# Altium footprint library Rich Footprints.PcbLib: 155 footprints (part 1 of 10)
Each footprint in its own frame and in the unit in brackets; x right, y up, seen from the top. Pads: shape width x height; smd on the part's side, far side on the other; paste and mask are expansions set on the pad; w line width, h text height; cw(c..) or ccw(c..) is an arc to the next point about the centre after c.
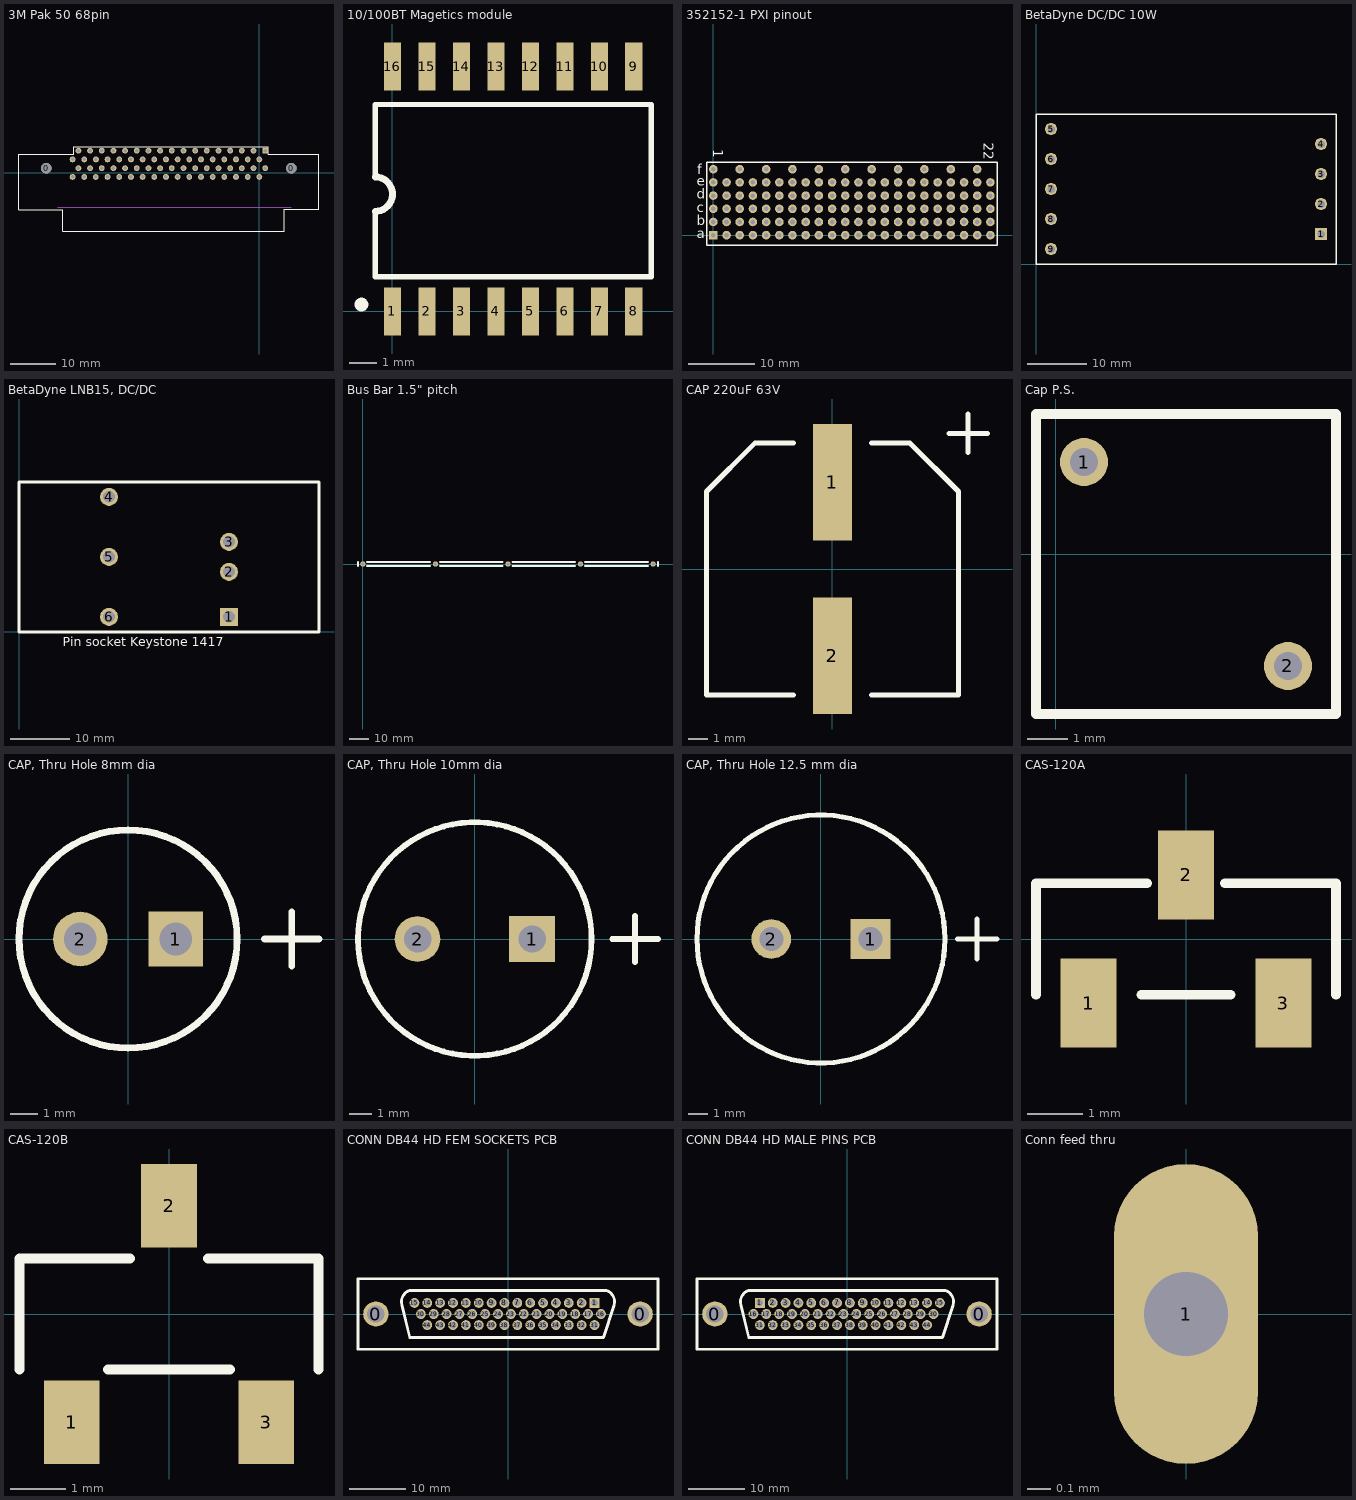
[diagram p0: the footprints below, top view; thin cyan lines are the x and y axes]

## 3M Pak 50 68pin [mil] "68 pin RT angle thru hole"
height 275.59
pads (70):
  round 90 hole 90 unplated: 0(-1825,37) 0(275,37)
  round 50 hole 30 mask+4: 0(-1150,187.5) 2(50,37.5) 3(0,112.5) 5(-50,187.5) 6(-50,37.5) 7(-100,112.5) 9(-150,187.5) 10(-150,37.5) 11(-200,112.5) 13(-250,187.5) 14(-250,37.5) 15(-300,112.5) 17(-350,187.5) 18(-350,37.5) 19(-400,112.5) 21(-450,187.5) 22(-450,37.5) 23(-500,112.5) 25(-550,187.5) 26(-550,37.5) 27(-600,112.5) 29(-650,187.5) 30(-650,37.5) 31(-700,112.5) 33(-750,187.5) 34(-750,37.5) 35(-800,112.5) 37(-850,187.5) 38(-850,37.5) 39(-900,112.5) 41(-950,187.5) 42(-950,37.5) 43(-1000,112.5) 45(-1050,187.5) 46(-1050,37.5) 47(-1100,112.5) 50(-1150,37.5) 51(-1200,112.5) 53(-1250,187.5) 54(-1250,37.5) 55(-1300,112.5) 57(-1350,187.5) 58(-1350,37.5) 59(-1400,112.5) 61(-1450,187.5) 62(-1450,37.5) 63(-1500,112.5) 65(-1550,187.5) 66(-1550,37.5) 67(-1600,112.5)
  rect 50x50 hole 30 mask+4: 1(50,187.5)
  round 50 hole 30: 4(0,-37.5) 8(-100,-37.5) 12(-200,-37.5) 16(-300,-37.5) 20(-400,-37.5) 24(-500,-37.5) 28(-600,-37.5) 32(-700,-37.5) 36(-800,-37.5) 40(-900,-37.5) 44(-1000,-37.5) 48(-1100,-37.5) 52(-1200,-37.5) 56(-1300,-37.5) 60(-1401,-38) 64(-1500,-37.5) 68(-1600,-37.5)
Top Overlay:
  lines w10: -2059,-318 -2059,-195 -2059,37 -2059,158 -1698,158 -1591,158 -1588,161 -1588,222 78,222 78,155 81,158 511,158 511,37 511,-315 215,-315 215,-504 -1686,-504 -1686,-318 -2059,-318
Mechanical 13:
  lines w10: -1725,-299 275,-299
  text "PCB Edge" at -953,-379 h50

## 10/100BT Magetics module [mil] "bel p/n S558-6-5999-J1-F"
pads (16):
  rect 25x70 smd: 1(0,0) 2(50,0) 3(100,0) 4(150,0) 5(200,0) 6(250,0) 7(300,0) 8(350,0) 9(350,355) 10(300,355) 11(250,355) 12(200,355) 13(150,355) 14(100,355) 15(50,355) 16(0,355)
Top Overlay:
  circle w10: c-45,10 r5
  lines w7.87: -25,145 -25,50 375,50 375,300 -25,300 -25,195
  lines w10: -25,145 ccw(c-25,170) -25,195

## 352152-1 PXI pinout [mm] "Connector; CompactPCI; 110 Position; Right Angle"
height 8.13
pads (121):
  rect 1.3x1.3 hole 0.7: A1(0,0)
  round 1.3 hole 0.7: A2(2,0) A3(4,0) A4(6,0) A5(8,0) A6(10,0) A7(12,0) A8(14,0) A9(16,0) A10(18,0) A11(20,0) A12(22,0) A13(24,0) A14(26,0) A15(28,0) A16(30,0) A17(32,0) A18(34,0) A19(36,0) A20(38,0) A21(40,0) A22(42,0) B1(0,2) B2(2,2) B3(4,2) B4(6,2) B5(8,2) B6(10,2) B7(12,2) B8(14,2) B9(16,2) B10(18,2) B11(20,2) B12(22,2) B13(24,2) B14(26,2) B15(28,2) B16(30,2) B17(32,2) B18(34,2) B19(36,2) B20(38,2) B21(40,2) B22(42,2) C1(0,4) C2(2,4) C3(4,4) C4(6,4) C5(8,4) C6(10,4) C7(12,4) C8(14,4) C9(16,4) C10(18,4) C11(20,4) C12(22,4) C13(24,4) C14(26,4) C15(28,4) C16(30,4) C17(32,4) C18(34,4) C19(36,4) C20(38,4) C21(40,4) C22(42,4) D1(0,6) D2(2,6) D3(4,6) D4(6,6) D5(8,6) D6(10,6) D7(12,6) D8(14,6) D9(16,6) D10(18,6) D11(20,6) D12(22,6) D13(24,6) D14(26,6) D15(28,6) D16(30,6) D17(32,6) D18(34,6) D19(36,6) D20(38,6) D21(40,6) D22(42,6) E1(0,8) E2(2,8) E3(4,8) E4(6,8) E5(8,8) E6(10,8) E7(12,8) E8(14,8) E9(16,8) E10(18,8) E11(20,8) E12(22,8) E13(24,8) E14(26,8) E15(28,8) E16(30,8) E17(32,8) E18(34,8) E19(36,8) E20(38,8) E21(40,8) E22(42,8) F1(0,10) F3(4,10) F5(8,10) F7(12,10) F9(16,10) F11(20,10) F13(24,10) F15(28,10) F17(32,10) F19(36,10) F21(40,10)
Top Overlay:
  lines w0.2: -1,-1.5 43,-1.5 43,11.05 -1,11.05 -1,-1.5
  text "1" at 0,13 h1.5
  text "22" at 41,14 h1.5
  text "e" at -2.475,7.5 h1.5
  text "d" at -2.475,5.5 h1.5
  text "c" at -2.475,3.5 h1.5
  text "b" at -2.475,1.5 h1.5
  text "a" at -2.475,-0.5 h1.5
  text "f" at -2.475,9.225 h1.5

## BetaDyne DC/DC 10W [mil]
height 393.7
pads (9):
  rect 80x80 hole 50: 1(1900,200)
  round 80 hole 50: 2(1900,400) 3(1900,600) 4(1900,800) 5(100,900) 6(100,700) 7(100,500) 8(100,300) 9(100,100)
Top Overlay:
  lines w10: 0,0 2000,0 2000,1000 0,1000 0,0

## BetaDyne LNB15, DC/DC [mil] "15W Low Noise"
height 450
pads (6):
  rect 120x120 hole 78: 1(1400,100)
  round 120 hole 78: 2(1400,400) 3(1400,600) 4(600,900) 5(600,500) 6(600,100)
Top Overlay:
  lines w20: 0,0 2000,0 2000,1000 0,1000 0,0
  text "Pin socket Keystone 1417" at 290,-95 h60

## Bus Bar 1.5" pitch [mil] "Rigid/Bus Bar"
pads (5):
  round 110 hole 70: 1(0,0) 1(1500,0) 1(3000,0) 1(4500,0) 1(6000,0)
Top Overlay:
  lines w39.37: -100,-40 -100,40 ; 90,-40 1390,-40 ; 90,40 1390,40 ; 1590,-40 2890,-40 ; 1590,40 2890,40 ; 3090,-40 4390,-40 ; 3090,40 4390,40 ; 4590,-40 5890,-40 ; 4590,40 5890,40 ; 6100,-40 6100,40

## CAP 220uF 63V [mm] "United Chemi-Con size KG5"
pads (2):
  rect 2x6 smd: 1(0,4.475) 2(0,-4.475)
Top Overlay:
  lines w0.254: -2,-6.5 -6.5,-6.5 -6.5,4 -4,6.5 -2,6.5 ; 2,-6.5 6.5,-6.5 6.5,0 6.5,4 4,6.5 2,6.5 ; 6,7 8,7 ; 7,6 7,8

## Cap P.S. [mm]
pads (2):
  round 1.2 hole 0.7: 1(0.7,2.3) 2(5.8,-2.8)
Top Overlay:
  lines w0.254: -0.5,-4 -0.5,3.5 7,3.5 7,-4 -0.5,-4

## CAP, Thru Hole 8mm dia [mm]
pads (2):
  rect 2x2 hole 1.2: 1(1.75,0)
  round 2 hole 1.2: 2(-1.75,0)
Top Overlay:
  circle w0.254: c0,0 r4
  lines w0.254: 5,0 7,0 ; 6,-1 6,1

## CAP, Thru Hole 10mm dia [mm]
pads (2):
  rect 2x2 hole 1.2: 1(2.5,0)
  round 2 hole 1.2: 2(-2.5,0)
Top Overlay:
  circle w0.254: c0,0 r5.099
  lines w0.254: 6,0 7,0 ; 7,-1 7,0 ; 7,1 7,0 ; 8,0 7,0

## CAP, Thru Hole 12.5 mm dia [mm]
pads (2):
  rect 2x2 hole 1.2: 1(2.5,0)
  round 2 hole 1.2: 2(-2.5,0)
Top Overlay:
  circle w0.254: c0,0 r6.25
  lines w0.254: 6.874,0 7.874,0 ; 7.874,-1 7.874,0 ; 7.874,1 7.874,0 ; 8.874,0 7.874,0

## CAS-120A [mm] "Copal Electronics CAS SMD Slide Switch J-Hook"
height 2.54
pads (3):
  rect 1x1.6 smd: 1(-1.75,-1.15) 2(0,1.15) 3(1.75,-1.15)
Top Overlay:
  lines w0.178: -2.692,-1 -2.692,1 -0.7,1 ; -0.8,-1 0.8,-1 ; 0.7,1 2.692,1 2.692,-1

## CAS-120B [mm] "Copal Electronics CAS SMD Slide Switch"
height 2.54
pads (3):
  rect 1x1.5 smd: 1(-1.75,-1.95) 2(0,1.95) 3(1.75,-1.95)
Top Overlay:
  lines w0.178: -2.692,-1 -2.692,1 -0.7,1 ; -1.1,-1 1.1,-1 ; 0.7,1 2.692,1 2.692,-1

## CONN DB44 HD FEM SOCKETS PCB [mm] "PCB VERTICAL MOUNT"
pads (46):
  round 4.5 hole 3.1: 0(-23.525,0) 0(23.525,0)
  rect 1.75x1.75 hole 1.2: 1(15.4,1.98)
  round 1.75 hole 1.2: 2(13.11,1.98) 3(10.82,1.98) 4(8.53,1.98) 5(6.24,1.98) 6(3.95,1.98) 7(1.66,1.98) 8(-0.63,1.98) 9(-2.92,1.98) 10(-5.21,1.98) 11(-7.5,1.98) 12(-9.79,1.98) 13(-12.08,1.98) 14(-14.37,1.98) 15(-16.66,1.98) 16(16.545,0) 17(14.255,0) 18(11.965,0) 19(9.675,0) 20(7.385,0) 21(5.095,0) 22(2.805,0) 23(0.515,0) 24(-1.775,0) 25(-4.065,0) 26(-6.355,0) 27(-8.645,0) 28(-10.935,0) 29(-13.225,0) 30(-15.515,0) 31(15.4,-1.98) 32(13.11,-1.98) 33(10.82,-1.98) 34(8.53,-1.98) 35(6.24,-1.98) 36(3.95,-1.98) 37(1.66,-1.98) 38(-0.63,-1.98) 39(-2.92,-1.98) 40(-5.21,-1.98) 41(-7.5,-1.98) 42(-9.79,-1.98) 43(-12.08,-1.98) 44(-14.37,-1.98)
Top Overlay:
  lines w0.508: -17.5,4.18 ccw(c-16.839,2.161) -18.859,1.5 -17.5,-4.18 0,-4.18 17,-4.18 18.859,1.5 ccw(c16.839,2.161) 17.5,4.18 ; -17.399,4.18 17.424,4.18 ; -26.7,-6.275 0,-6.275 26.7,-6.275 26.7,6.275 -26.7,6.275 -26.7,-6.275

## CONN DB44 HD MALE PINS PCB [mm] "PCB VERTICAL MOUNT"
pads (46):
  round 4.5 hole 3.1: 0(-23.525,0) 0(23.525,0)
  rect 1.75x1.75 hole 1.2: 1(-15.515,1.98)
  round 1.75 hole 1.2: 2(-13.225,1.98) 3(-10.935,1.98) 4(-8.645,1.98) 5(-6.355,1.98) 6(-4.065,1.98) 7(-1.775,1.98) 8(0.515,1.98) 9(2.805,1.98) 10(5.095,1.98) 11(7.385,1.98) 12(9.675,1.98) 13(11.965,1.98) 14(14.255,1.98) 15(16.545,1.98) 16(-16.66,0) 17(-14.37,0) 18(-12.08,0) 19(-9.79,0) 20(-7.5,0) 21(-5.21,0) 22(-2.92,0) 23(-0.63,0) 24(1.66,0) 25(3.95,0) 26(6.24,0) 27(8.53,0) 28(10.82,0) 29(13.11,0) 30(15.4,0) 31(-15.515,-1.98) 32(-13.225,-1.98) 33(-10.935,-1.98) 34(-8.645,-1.98) 35(-6.355,-1.98) 36(-4.065,-1.98) 37(-1.775,-1.98) 38(0.515,-1.98) 39(2.805,-1.98) 40(5.095,-1.98) 41(7.385,-1.98) 42(9.675,-1.98) 43(11.965,-1.98) 44(14.255,-1.98)
Top Overlay:
  lines w0.508: -17.5,4.18 ccw(c-16.839,2.161) -18.859,1.5 -17.5,-4.18 0,-4.18 17,-4.18 18.859,1.5 ccw(c16.839,2.161) 17.5,4.18 ; -17.399,4.18 17.424,4.18 ; -26.7,-6.275 -26.7,6.275 26.7,6.275 26.7,-6.275 0,-6.275 -26.7,-6.275

## Conn feed thru [mil] "simple feed thru"
pads (1):
  oval 24x50 hole 14: 1(0,0)